# Altium footprint library CAN_chip.PcbLib: 1 footprints
Each footprint in its own frame and in the unit in brackets; x right, y up, seen from the top. Pads: shape width x height; smd on the part's side, far side on the other; paste and mask are expansions set on the pad; w line width, h text height; cw(c..) or ccw(c..) is an arc to the next point about the centre after c.
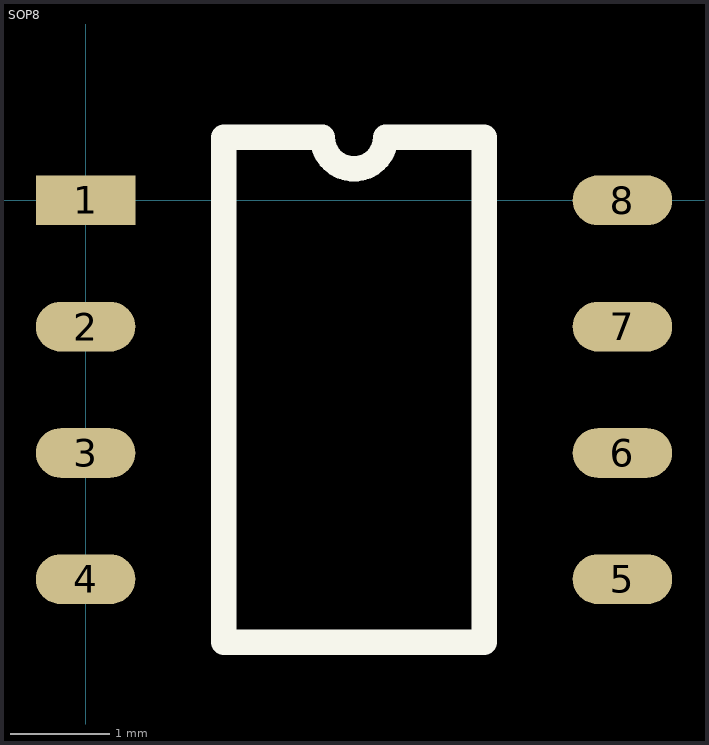
[diagram p0: the footprint, top view; thin cyan lines are the x and y axes]

## SOP8 [mm]
pads (8):
  rect 1x0.5 smd: 1(0,0)
  oval 1x0.5 smd: 2(0,-1.27) 3(0,-2.54) 4(0,-3.81) 5(5.4,-3.81) 6(5.4,-2.54) 7(5.4,-1.27) 8(5.4,0)
Top Overlay:
  lines w0.254: 1.389,-4.445 4.011,-4.445 4.011,0.635 3.017,0.635 cw(c2.7,0.635) 2.382,0.635 1.389,0.635 1.389,-4.445